# Altium footprint library PLCC-28L(P-28).PcbLib: 1 footprints
Each footprint in its own frame and in the unit in brackets; x right, y up, seen from the top. Pads: shape width x height; smd on the part's side, far side on the other; paste and mask are expansions set on the pad; w line width, h text height; cw(c..) or ccw(c..) is an arc to the next point about the centre after c.
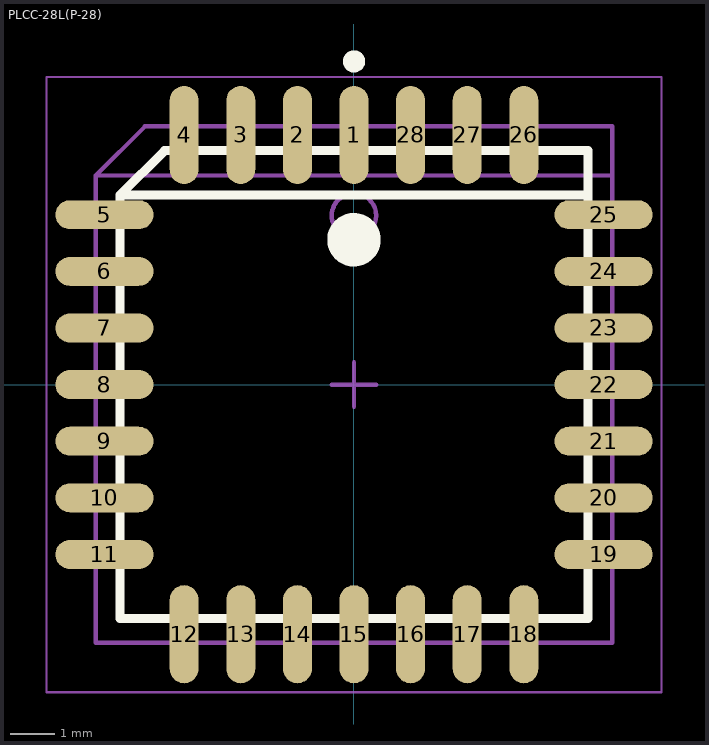
[diagram p0: the footprint, top view; thin cyan lines are the x and y axes]

## PLCC-28L(P-28) [mm] "DG407"
height 4.57
pads (28):
  oval 0.65x2.2 smd: 1(0,5.6) 2(-1.27,5.6) 3(-2.54,5.6) 4(-3.81,5.6) 12(-3.81,-5.6) 13(-2.54,-5.6) 14(-1.27,-5.6) 15(0,-5.6) 16(1.27,-5.6) 17(2.54,-5.6) 18(3.81,-5.6) 26(3.81,5.6) 27(2.54,5.6) 28(1.27,5.6)
  oval 2.2x0.65 smd: 5(-5.6,3.81) 6(-5.6,2.54) 7(-5.6,1.27) 8(-5.6,0) 9(-5.6,-1.27) 10(-5.6,-2.54) 11(-5.6,-3.81) 19(5.6,-3.81) 20(5.6,-2.54) 21(5.6,-1.27) 22(5.6,0) 23(5.6,1.27) 24(5.6,2.54) 25(5.6,3.81)
Top Overlay:
  circle w0.25: c0,7.25 r0.125
  circle w0.6: c0,3.25 r0.3
  lines w0.2: 5.25,4.25 -5.25,4.25 ; -5.25,4.25 -4.25,5.25 5.25,5.25 5.25,-5.25 -5.25,-5.25 -5.25,4.25
Mechanical 13:
  circle w0.1: c0,3.79 r0.5
  lines w0.1: 5.79,4.69 -5.79,4.69 ; -5.79,4.69 -5.79,-5.79 5.79,-5.79 5.79,5.79 -4.69,5.79 -5.79,4.69
Mechanical 15:
  lines w0.05: -6.9,-6.9 -6.9,6.9 6.9,6.9 6.9,-6.9 -6.9,-6.9
  lines w0.1: -0.5,0 0.5,0 ; 0,-0.5 0,0.5
3D body: height 4.57, standoff 2.29, extent -5.79,-5.79 5.79,5.79